# Altium schematic symbol library BLE_SW3_Library.SchLib: 36 symbols
Pins are listed as number, name and electrical type; pins without a type are passive.

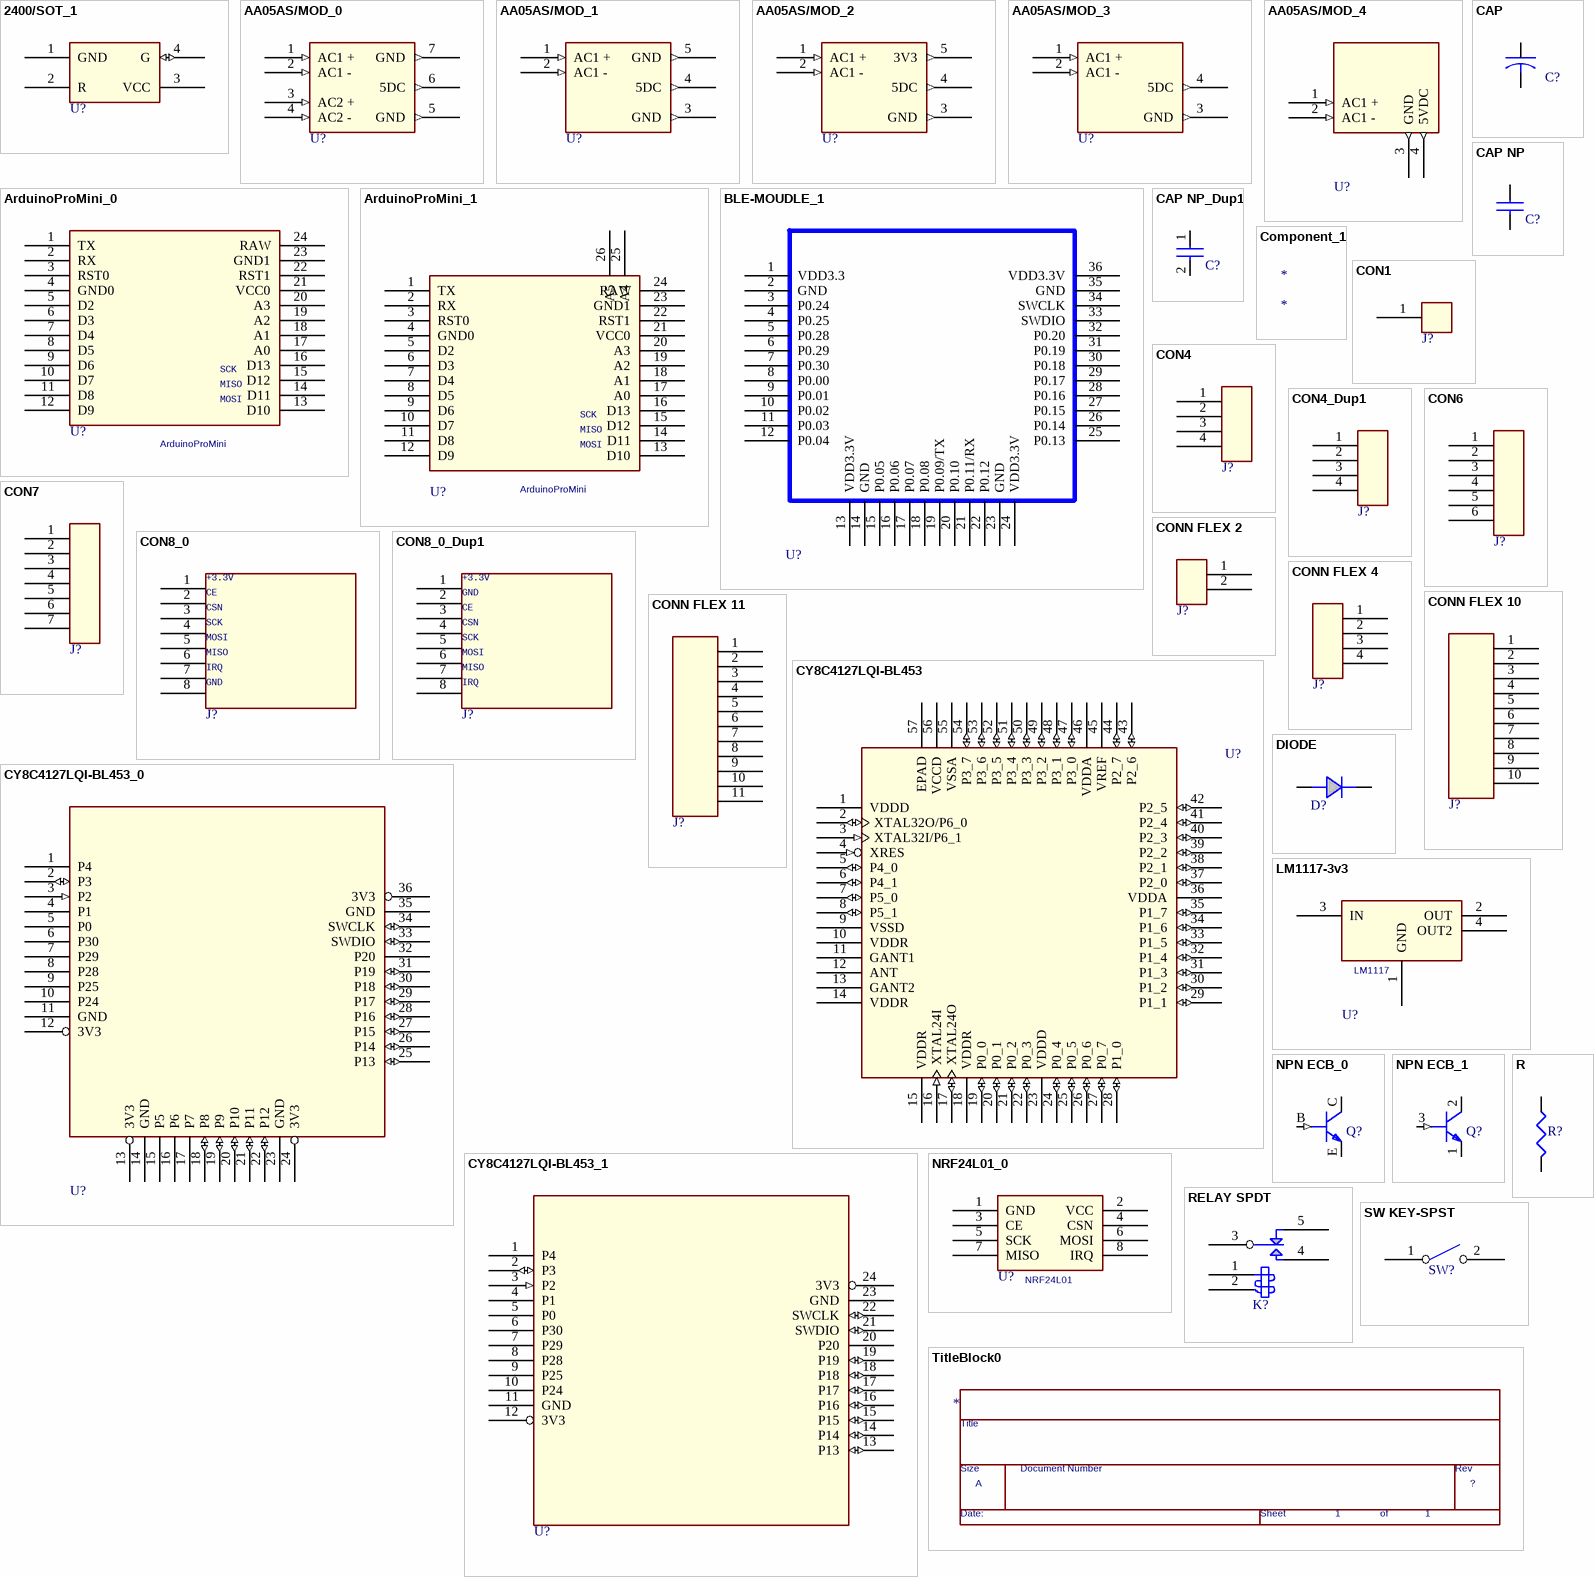
[diagram p0: symbols 2400/SOT_1 to TitleBlock0]

## 2400/SOT_1
designator U?
pins: 1 GND, 2 R, 3 VCC, 4 G (io)

## AA05AS/MOD_0
designator U?
pins: 1 AC1 + (in), 2 AC1 - (in), 3 AC2 + (in), 4 AC2 - (in), 5 GND (out), 6 5DC (out), 7 GND (out)

## AA05AS/MOD_1
designator U?
pins: 1 AC1 + (in), 2 AC1 - (in), 3 GND (out), 4 5DC (out), 5 GND (out)

## AA05AS/MOD_2
designator U?
pins: 1 AC1 + (in), 2 AC1 - (in), 3 GND (out), 4 5DC (out), 5 3V3 (out)

## AA05AS/MOD_3
designator U?
pins: 1 AC1 + (in), 2 AC1 - (in), 3 GND (out), 4 5DC (out)

## AA05AS/MOD_4
designator U?
pins: 1 AC1 + (in), 2 AC1 - (in), 3 GND (out), 4 5VDC (out)

## ArduinoProMini_0
designator U?, comment ArduinoProMini
pins: 1 TX, 2 RX, 3 RST0, 4 GND0, 5 D2, 6 D3, 7 D4, 8 D5, 9 D6, 10 D7, 11 D8, 12 D9, 13 D10, 14 D11, 15 D12, 16 D13, 17 A0, 18 A1, 19 A2, 20 A3, 21 VCC0, 22 RST1, 23 GND1, 24 RAW
text: SCK; MISO; MOSI

## ArduinoProMini_1
designator U?, comment ArduinoProMini
pins: 1 TX, 2 RX, 3 RST0, 4 GND0, 5 D2, 6 D3, 7 D4, 8 D5, 9 D6, 10 D7, 11 D8, 12 D9, 13 D10, 14 D11, 15 D12, 16 D13, 17 A0, 18 A1, 19 A2, 20 A3, 21 VCC0, 22 RST1, 23 GND1, 24 RAW, 25 A4, 26 A5
text: SCK; MISO; MOSI

## BLE-MOUDLE_1
designator U?
pins: 1 VDD3.3, 2 GND, 3 P0.24, 4 P0.25, 5 P0.28, 6 P0.29, 7 P0.30, 8 P0.00, 9 P0.01, 10 P0.02, 11 P0.03, 12 P0.04, 13 VDD3.3V, 14 GND, 15 P0.05, 16 P0.06, 17 P0.07, 18 P0.08, 19 P0.09/TX, 20 P0.10, 21 P0.11/RX, 22 P0.12, 23 GND, 24 VDD3.3V, 25 P0.13, 26 P0.14, 27 P0.15, 28 P0.16, 29 P0.17, 30 P0.18, 31 P0.19, 32 P0.20, 33 SWDIO, 34 SWCLK, 35 GND, 36 VDD3.3V

## CAP
designator C?
pins: 1, 2

## CAP NP
designator C?
pins: 1, 2

## CAP NP_Dup1
designator C?
pins: 1, 2

## Component_1
designator *

## CON1
designator J?
pins: 1

## CON4
designator J?
pins: 1, 2, 3, 4

## CON4_Dup1
designator J?
pins: 1, 2, 3, 4

## CON6
designator J?
pins: 1, 2, 3, 4, 5, 6

## CON7
designator J?
pins: 1, 2, 3, 4, 5, 6, 7

## CON8_0
designator J?
pins: 1, 2, 3, 4, 5, 6, 7, 8
text: +3.3V; CE; CSN; SCK; MOSI; MISO; IRQ; GND

## CON8_0_Dup1
designator J?
pins: 1, 2, 3, 4, 5, 6, 7, 8
text: +3.3V; GND; CE; CSN; SCK; MOSI; MISO; IRQ

## CONN FLEX 2
designator J?
pins: 1, 2

## CONN FLEX 4
designator J?
pins: 1, 2, 3, 4

## CONN FLEX 10
designator J?
pins: 1, 2, 3, 4, 5, 6, 7, 8, 9, 10

## CONN FLEX 11
designator J?
pins: 1, 2, 3, 4, 5, 6, 7, 8, 9, 10, 11

## CY8C4127LQI-BL453
designator U?
footprint TBD
pins: 1 VDDD (power), 2 XTAL32O/P6_0 (io), 3 XTAL32I/P6_1 (in), 4 XRES (in), 5 P4_0 (io), 6 P4_1 (io), 7 P5_0 (io), 8 P5_1 (io), 9 VSSD (power), 10 VDDR (power), 11 GANT1 (power), 12 ANT, 13 GANT2 (power), 14 VDDR (power), 15 VDDR (power), 16 XTAL24I (in), 17 XTAL24O (io), 18 VDDR (power), 19 P0_0 (io), 20 P0_1 (io), 21 P0_2 (io), 22 P0_3 (io), 23 VDDD (power), 24 P0_4 (io), 25 P0_5 (io), 26 P0_6 (io), 27 P0_7 (io), 28 P1_0 (io), 29 P1_1 (io), 30 P1_2 (io), 31 P1_3 (io), 32 P1_4 (io), 33 P1_5 (io), 34 P1_6 (io), 35 P1_7 (io), 36 VDDA (power), 37 P2_0 (io), 38 P2_1 (io), 39 P2_2 (io), 40 P2_3 (io), 41 P2_4 (io), 42 P2_5 (io), 43 P2_6 (io), 44 P2_7 (io), 45 VREF (power), 46 VDDA (power), 47 P3_0 (io), 48 P3_1 (io), 49 P3_2 (io), 50 P3_3 (io), 51 P3_4 (io), 52 P3_5 (io), 53 P3_6 (io), 54 P3_7 (io), 55 VSSA (power), 56 VCCD (power), 57 EPAD (power)

## CY8C4127LQI-BL453_0
designator U?
footprint TBD
pins: 1 P4 (power), 2 P3 (io), 3 P2 (in), 4 P1, 5 P0, 6 P30, 7 P29, 8 P28, 9 P25, 10 P24, 11 GND, 12 3V3 (power), 13 3V3 (power), 14 GND, 15 P5, 16 P6, 17 P7, 18 P8 (io), 19 P9 (io), 20 P10 (io), 21 P11 (io), 22 P12 (io), 23 GND, 24 3V3 (power), 25 P13 (io), 26 P14 (io), 27 P15 (io), 28 P16 (io), 29 P17 (io), 30 P18 (io), 31 P19 (io), 32 P20 (power), 33 SWDIO (io), 34 SWCLK (io), 35 GND, 36 3V3 (power)

## CY8C4127LQI-BL453_1
designator U?
footprint TBD
pins: 1 P4 (power), 2 P3 (io), 3 P2 (in), 4 P1, 5 P0, 6 P30, 7 P29, 8 P28, 9 P25, 10 P24, 11 GND, 12 3V3 (power), 13 P13 (io), 14 P14 (io), 15 P15 (io), 16 P16 (io), 17 P17 (io), 18 P18 (io), 19 P19 (io), 20 P20 (power), 21 SWDIO (io), 22 SWCLK (io), 23 GND, 24 3V3 (power)

## DIODE
designator D?
pins: 1 K, 2 A

## LM1117-3v3
designator U?, comment LM1117
pins: 1 GND, 2 OUT, 3 IN, 4 OUT2

## NPN ECB_0
designator Q?
pins: B BASE (in), C COLLECTOR, E EMITTER

## NPN ECB_1
designator Q?
pins: 1 EMITTER, 2 COLLECTOR, 3 BASE (in)

## NRF24L01_0
designator U?, comment NRF24L01
pins: 1 GND, 2 VCC, 3 CE, 4 CSN, 5 SCK, 6 MOSI, 7 MISO, 8 IRQ

## R
designator R?
pins: 1, 2

## RELAY SPDT
designator K?
pins: 1 COIL1, 2 COIL2, 3 COMMON, 4 NO, 5 NC

## SW KEY-SPST
designator SW?
pins: 1, 2

## TitleBlock0
designator *  Page Size: A  Page Number: 1  (graphical)
Page Create Date: March  8, 1995; RevCode: ?; Page Count: 1
text: Title; Size; Document Number; Rev; Date:; Sheet; of